# Altium schematic symbol library 电容.SCHLIB: 5 symbols
Pins are listed as number, name and electrical type; pins without a type are passive.

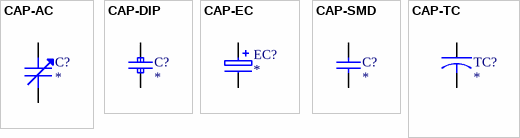
[diagram p0: symbols CAP-AC to CAP-TC]

## CAP-AC
designator C?
pins: 1, 2

## CAP-DIP
designator C?
pins: 1, 2

## CAP-EC
designator EC?
pins: 1, 2

## CAP-SMD
designator C?
footprint 0805 (Footprint not found)
pins: 1, 2

## CAP-TC
designator TC?
pins: 1, 2